# Altium footprint library SENSOR_MPX53DP.PcbLib: 1 footprints
Each footprint in its own frame and in the unit in brackets; x right, y up, seen from the top. Pads: shape width x height; smd on the part's side, far side on the other; paste and mask are expansions set on the pad; w line width, h text height; cw(c..) or ccw(c..) is an arc to the next point about the centre after c.
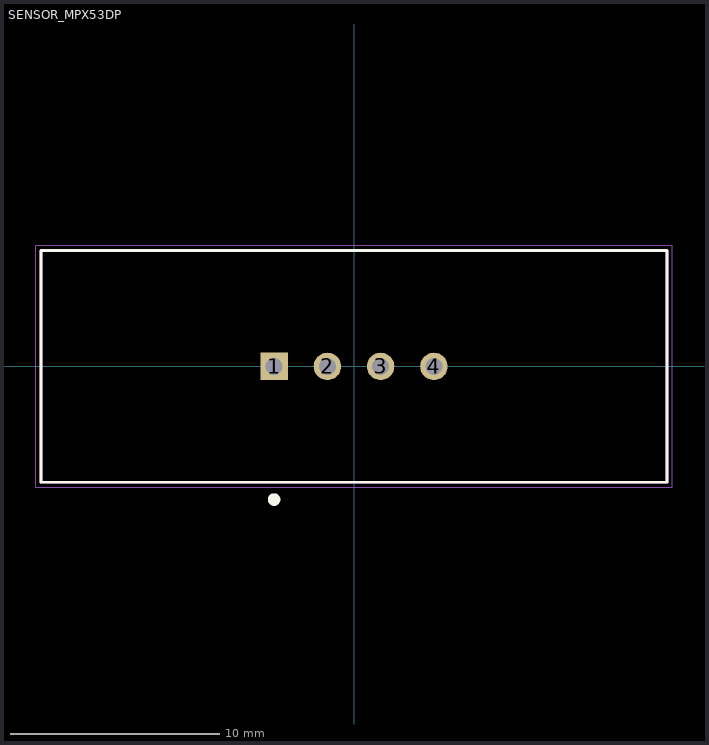
[diagram p0: the footprint, top view; thin cyan lines are the x and y axes]

## SENSOR_MPX53DP [mm]
pads (4):
  rect 1.308x1.308 hole 0.8: 1(-3.81,0)
  round 1.308 hole 0.8: 2(-1.27,0) 3(1.27,0) 4(3.81,0)
Top Overlay:
  circle w0.3: c-3.81,-6.35 r0.15
  lines w0.127: -14.925,-5.525 14.925,-5.525 14.925,5.525 -14.925,5.525 -14.925,-5.525
Mechanical 13:
  circle w0.3: c-3.81,0 r0.15
  lines w0.127: -14.925,-5.525 -14.925,5.525 14.925,5.525 14.925,-5.525 -14.925,-5.525
Mechanical 15:
  lines w0.05: -15.175,-5.775 -15.175,5.775 15.175,5.775 15.175,-5.775 -15.175,-5.775